# Altium integrated library NXP Microcontrollers ARM7.IntLib: 82 symbols (part 4 of 11)
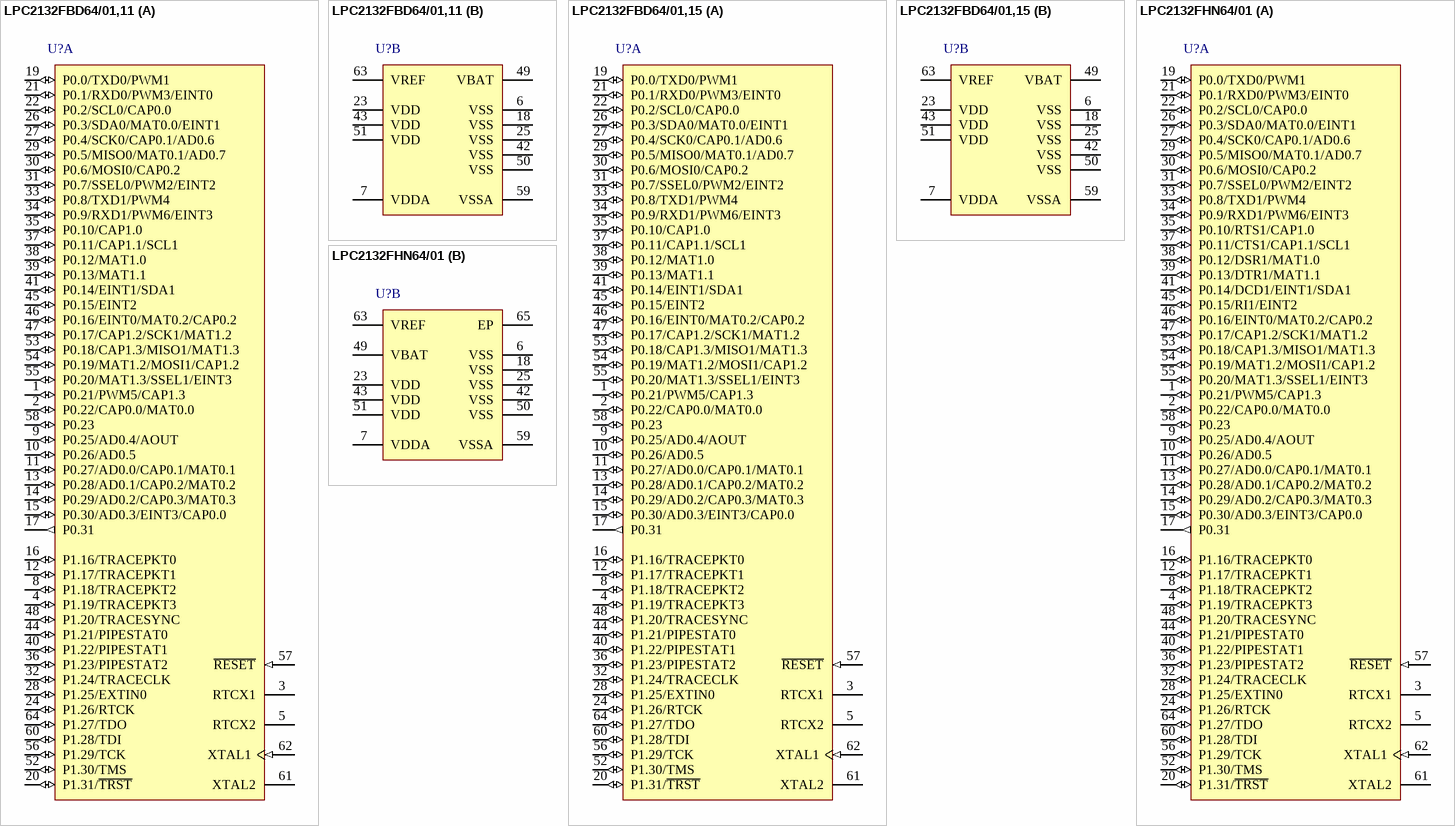
[diagram p38: symbols LPC2132FBD64/01,11 to LPC2132FHN64/01]

## LPC2132FHN64/01
designator U?
16/32-bit ARM7 Microcontroller, 47 I/O, 64 kB Flash, 16 kB SRAM, -40 to 85 degC, 64-Pin HVQFN, Tray; Manufacturer: NXP Semiconductors; PartNumber: LPC2132FHN64/01; # of timers: 2; ADC (bits): 10; ADC Channels: 8; Flash (KB): 64; fmax [max] (MHz): 60; I/O Pins: 47; PLL: TRUE; PWM: 6; RAM (KB): 16; SPI: 1; Timer (bits): 32; DatasheetVersion: Rev. 5.1; PackageVersion: Mar-04; PackageReference: SOT804-2; PackageDescription: 64-Pin Plastic Thermal Enhanced Very Thin Quad Flat Package, Body 9 x 9 mm, Pitch 0.5 mm; Core: ARM7; I2C: 2; Packing: Tray; SSP: 1; UART: 2; Mounting Technology: Surface Mount; Code_JEDEC: MO-220; ComponentLink1Description: Manufacturer URL; ComponentLink1URL: http://www.nxp.com/; ComponentLink2Description: Datasheet; ComponentLink2URL: http://www.nxp.com/documents/data_sheet/LPC2131_32_34_36_38.pdf; ComponentLink3Description: Package Specification; ComponentLink3URL: http://www.nxp.com/documents/outline_drawing/sot804-2_po.pdf
footprint NXP-SOT804-2_N (QFN, 64-Leads, Body 9.05x9.05mm, Pitch 0.5mm, Thermal Pad 7.1x7.1mm, IPC Medium Density)
footprint NXP-SOT804-2_L (QFN, 64-Leads, Body 9.05x9.05mm, Pitch 0.5mm, Thermal Pad 7.1x7.1mm, IPC High Density)
footprint NXP-SOT804-2_M (QFN, 64-Leads, Body 9.05x9.05mm, Pitch 0.5mm, Thermal Pad 7.1x7.1mm, IPC Low Density)
part A pins: 1 P0.21/PWM5/CAP1.3 (io), 2 P0.22/CAP0.0/MAT0.0 (io), 3 RTCX1 "Input to the RTC oscillator circuit.", 4 P1.19/TRACEPKT3 (io), 5 RTCX2 "Output from the RTC oscillator circuit.", 8 P1.18/TRACEPKT2 (io), 9 P0.25/AD0.4/AOUT (io), 10 P0.26/AD0.5 (io), 11 P0.27/AD0.0/CAP0.1/MAT0.1 (io), 12 P1.17/TRACEPKT1 (io), 13 P0.28/AD0.1/CAP0.2/MAT0.2 (io), 14 P0.29/AD0.2/CAP0.3/MAT0.3 (io), 15 P0.30/AD0.3/EINT3/CAP0.0 (io), 16 P1.16/TRACEPKT0 (io), 17 P0.31 (out) "General purpose digital output only pin. Important: This pin MUST NOT be externally pulled LOW when RESET pin is LOW or the JTAG port will be disabled.", 19 P0.0/TXD0/PWM1 (io), 20 P1.31/~{TRST} (io), 21 P0.1/RXD0/PWM3/EINT0 (io), 22 P0.2/SCL0/CAP0.0 (io), 24 P1.26/RTCK (io), 26 P0.3/SDA0/MAT0.0/EINT1 (io), 27 P0.4/SCK0/CAP0.1/AD0.6 (io), 28 P1.25/EXTIN0 (io), 29 P0.5/MISO0/MAT0.1/AD0.7 (io), 30 P0.6/MOSI0/CAP0.2 (io), 31 P0.7/SSEL0/PWM2/EINT2 (io), 32 P1.24/TRACECLK (io), 33 P0.8/TXD1/PWM4 (io), 34 P0.9/RXD1/PWM6/EINT3 (io), 35 P0.10/RTS1/CAP1.0 (io), 36 P1.23/PIPESTAT2 (io), 37 P0.11/CTS1/CAP1.1/SCL1 (io), 38 P0.12/DSR1/MAT1.0 (io), 39 P0.13/DTR1/MAT1.1 (io), 40 P1.22/PIPESTAT1 (io), 41 P0.14/DCD1/EINT1/SDA1 (io), 44 P1.21/PIPESTAT0 (io), 45 P0.15/RI1/EINT2 (io), 46 P0.16/EINT0/MAT0.2/CAP0.2 (io), 47 P0.17/CAP1.2/SCK1/MAT1.2 (io), 48 P1.20/TRACESYNC (io), 52 P1.30/TMS (io), 53 P0.18/CAP1.3/MISO1/MAT1.3 (io), 54 P0.19/MAT1.2/MOSI1/CAP1.2 (io), 55 P0.20/MAT1.3/SSEL1/EINT3 (io), 56 P1.29/TCK (io), 57 ~{RESET} (in) "External reset input: A LOW on this pin resets the device, causing I/O ports and peripherals to take on their default states, and processor execution to begin at address 0. TTL with hysteresis, 5 V tolerant.", 58 P0.23 (io) "General purpose digital input/output pin.", 60 P1.28/TDI (io), 61 XTAL2 "Output from the oscillator amplifier.", 62 XTAL1 (in) "Input to the oscillator circuit and internal clock generator circuits.", 64 P1.27/TDO (io)
part B pins: 6 VSS (power) "Ground: 0 V reference.", 7 VDDA (power) "Analog 3.3 V power supply: This should be nominally the same voltage as VDD but should be isolated to minimize noise and error. This voltage is used to power the on-chip PLL.", 18 VSS (power) "Ground: 0 V reference.", 23 VDD (power) "3.3 V power supply: This is the power supply voltage for the core and I/O ports.", 25 VSS (power) "Ground: 0 V reference.", 42 VSS (power) "Ground: 0 V reference.", 43 VDD (power) "3.3 V power supply: This is the power supply voltage for the core and I/O ports.", 49 VBAT (power) "RTC power supply: 3.3 V on this pin supplies the power to the RTC.", 50 VSS (power) "Ground: 0 V reference.", 51 VDD (power) "3.3 V power supply: This is the power supply voltage for the core and I/O ports.", 59 VSSA (power) "Analog ground: 0 V reference. This should nominally be the same voltage as VSS, but should be isolated to minimize noise and error.", 63 VREF "ADC reference: This should be nominally the same voltage as VDD but should be isolated to minimize noise and error. Level on this pin is used as a reference for A/D and D/A convertor(s).", 65 EP

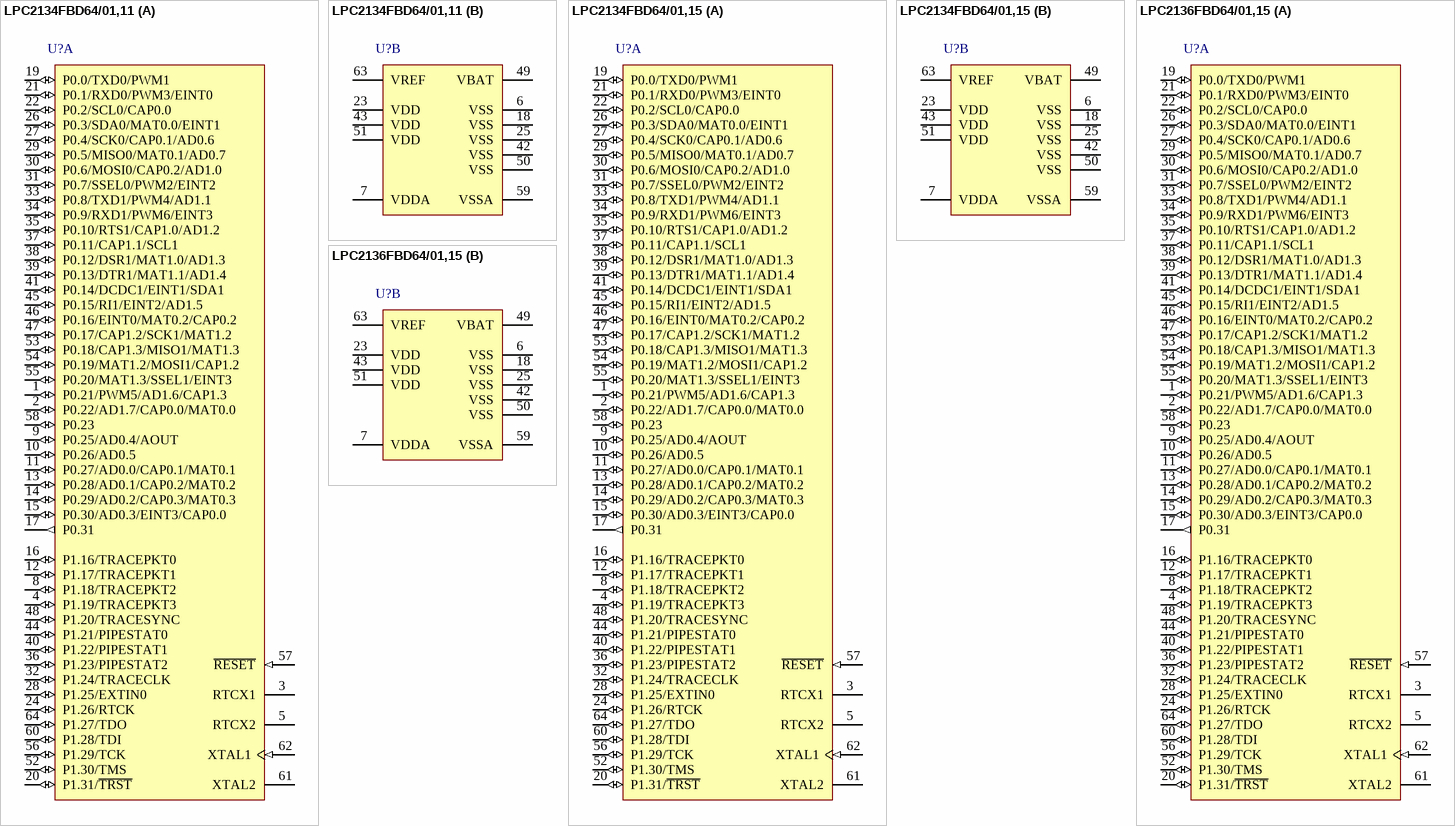
[diagram p9: symbols LPC2134FBD64/01,11 to LPC2136FBD64/01,15]

## LPC2134FBD64/01,11
designator U?
16/32-bit ARM7 Microcontroller, 47 I/O, 128 kB Flash, 16 kB SRAM, -40 to 85 degC, 64-Pin LQFP, Reel; Manufacturer: NXP Semiconductors; PartNumber: LPC2134FBD64/01,11; # of timers: 2; ADC (bits): 10; ADC Channels: 16; Flash (KB): 128; fmax [max] (MHz): 60; I/O Pins: 47; PLL: TRUE; PWM: 6; SPI: 1; Timer (bits): 32; DatasheetVersion: Rev. 5.1; PackageVersion: Feb-03; PackageReference: SOT314-2; PackageDescription: 64-Pin Plastic Low Profile Quad Flat Package, Body 10 x 10 mm, Pitch 0.5 mm; Supplier 1: Digi-Key; Supplier Part Number 1: LPC2134FBD64/01,11-ND; Supplier 2: Mouser; Supplier Part Number 2: 771-LPC2134FBD640111; Core: ARM7; I2C: 2; Packing: Reel; RAM (KB): 16; SSP: 1; UART: 2; Mounting Technology: Surface Mount; Code_JEDEC: MS-026; ComponentLink1Description: Manufacturer URL; ComponentLink1URL: http://www.nxp.com/; ComponentLink2Description: Datasheet; ComponentLink2URL: http://www.nxp.com/documents/data_sheet/LPC2131_32_34_36_38.pdf; ComponentLink3Description: Package Specification; ComponentLink3URL: http://www.nxp.com/documents/outline_drawing/sot314-2_po.pdf
footprint NXP-SOT314-2_V (QFP, 64-Leads, Body 10x10mm, Pitch 0.5mm)
part A pins: 1 P0.21/PWM5/AD1.6/CAP1.3 (io), 2 P0.22/AD1.7/CAP0.0/MAT0.0 (io), 3 RTCX1 "Input to the RTC oscillator circuit.", 4 P1.19/TRACEPKT3 (io), 5 RTCX2 "Output from the RTC oscillator circuit.", 8 P1.18/TRACEPKT2 (io), 9 P0.25/AD0.4/AOUT (io), 10 P0.26/AD0.5 (io), 11 P0.27/AD0.0/CAP0.1/MAT0.1 (io), 12 P1.17/TRACEPKT1 (io), 13 P0.28/AD0.1/CAP0.2/MAT0.2 (io), 14 P0.29/AD0.2/CAP0.3/MAT0.3 (io), 15 P0.30/AD0.3/EINT3/CAP0.0 (io), 16 P1.16/TRACEPKT0 (io), 17 P0.31 (out) "General purpose digital output only pin.", 19 P0.0/TXD0/PWM1 (io), 20 P1.31/~{TRST} (io), 21 P0.1/RXD0/PWM3/EINT0 (io), 22 P0.2/SCL0/CAP0.0 (io), 24 P1.26/RTCK (io), 26 P0.3/SDA0/MAT0.0/EINT1 (io), 27 P0.4/SCK0/CAP0.1/AD0.6 (io), 28 P1.25/EXTIN0 (io), 29 P0.5/MISO0/MAT0.1/AD0.7 (io), 30 P0.6/MOSI0/CAP0.2/AD1.0 (io), 31 P0.7/SSEL0/PWM2/EINT2 (io), 32 P1.24/TRACECLK (io), 33 P0.8/TXD1/PWM4/AD1.1 (io), 34 P0.9/RXD1/PWM6/EINT3 (io), 35 P0.10/RTS1/CAP1.0/AD1.2 (io), 36 P1.23/PIPESTAT2 (io), 37 P0.11/CAP1.1/SCL1 (io), 38 P0.12/DSR1/MAT1.0/AD1.3 (io), 39 P0.13/DTR1/MAT1.1/AD1.4 (io), 40 P1.22/PIPESTAT1 (io), 41 P0.14/DCDC1/EINT1/SDA1 (io), 44 P1.21/PIPESTAT0 (io), 45 P0.15/RI1/EINT2/AD1.5 (io), 46 P0.16/EINT0/MAT0.2/CAP0.2 (io), 47 P0.17/CAP1.2/SCK1/MAT1.2 (io), 48 P1.20/TRACESYNC (io), 52 P1.30/TMS (io), 53 P0.18/CAP1.3/MISO1/MAT1.3 (io), 54 P0.19/MAT1.2/MOSI1/CAP1.2 (io), 55 P0.20/MAT1.3/SSEL1/EINT3 (io), 56 P1.29/TCK (io), 57 ~{RESET} (in) "External reset input: A LOW on this pin resets the device, causing I/O ports and peripherals to take on their default states, and processor execution to begin at address 0. TTL with hysteresis, 5 V tolerant.", 58 P0.23 (io) "General purpose digital input/output pin.", 60 P1.28/TDI (io), 61 XTAL2 "Output from the oscillator amplifier.", 62 XTAL1 (in) "Input to the oscillator circuit and internal clock generator circuits.", 64 P1.27/TDO (io)
part B pins: 6 VSS (power) "Ground: 0 V reference.", 7 VDDA (power) "Analog 3.3 V power supply: This should be nominally the same voltage as VDD but should be isolated to minimize noise and error. This voltage is used to power the on-chip PLL.", 18 VSS (power) "Ground: 0 V reference.", 23 VDD (power) "3.3 V power supply: This is the power supply voltage for the core and I/O ports.", 25 VSS (power) "Ground: 0 V reference.", 42 VSS (power) "Ground: 0 V reference.", 43 VDD (power) "3.3 V power supply: This is the power supply voltage for the core and I/O ports.", 49 VBAT (power) "RTC power supply: 3.3 V on this pin supplies the power to the RTC.", 50 VSS (power) "Ground: 0 V reference.", 51 VDD (power) "3.3 V power supply: This is the power supply voltage for the core and I/O ports.", 59 VSSA (power) "Analog ground: 0 V reference. This should nominally be the same voltage as VSS, but should be isolated to minimize noise and error.", 63 VREF "ADC reference: This should be nominally the same voltage as VDD but should be isolated to minimize noise and error. Level on this pin is used as a reference for A/D and D/A convertor(s)."

## LPC2134FBD64/01,15
designator U?
16/32-bit ARM7 Microcontroller, 47 I/O, 128 kB Flash, 16 kB SRAM, -40 to 85 degC, 64-Pin LQFP, Tray; Manufacturer: NXP Semiconductors; PartNumber: LPC2134FBD64/01,15; # of timers: 2; ADC (bits): 10; ADC Channels: 16; Flash (KB): 128; fmax [max] (MHz): 60; I/O Pins: 47; PLL: TRUE; PWM: 6; SPI: 1; Timer (bits): 32; DatasheetVersion: Rev. 5.1; PackageVersion: Feb-03; PackageReference: SOT314-2; PackageDescription: 64-Pin Plastic Low Profile Quad Flat Package, Body 10 x 10 mm, Pitch 0.5 mm; Supplier 1: Digi-Key; Supplier Part Number 1: 568-4008-ND; Supplier 2: Farnell; Supplier Part Number 2: 2407832; Supplier 3: Newark; Supplier Part Number 3: 70R5623; Supplier 4: Mouser; Supplier Part Number 4: 771-LPC2134FBD64/01S; Core: ARM7; I2C: 2; Packing: Tray; RAM (KB): 16; SSP: 1; UART: 2; Mounting Technology: Surface Mount; Code_JEDEC: MS-026; ComponentLink1Description: Manufacturer URL; ComponentLink1URL: http://www.nxp.com/; ComponentLink2Description: Datasheet; ComponentLink2URL: http://www.nxp.com/documents/data_sheet/LPC2131_32_34_36_38.pdf; ComponentLink3Description: Package Specification; ComponentLink3URL: http://www.nxp.com/documents/outline_drawing/sot314-2_po.pdf
footprint NXP-SOT314-2_V (QFP, 64-Leads, Body 10x10mm, Pitch 0.5mm)
part A pins: 1 P0.21/PWM5/AD1.6/CAP1.3 (io), 2 P0.22/AD1.7/CAP0.0/MAT0.0 (io), 3 RTCX1 "Input to the RTC oscillator circuit.", 4 P1.19/TRACEPKT3 (io), 5 RTCX2 "Output from the RTC oscillator circuit.", 8 P1.18/TRACEPKT2 (io), 9 P0.25/AD0.4/AOUT (io), 10 P0.26/AD0.5 (io), 11 P0.27/AD0.0/CAP0.1/MAT0.1 (io), 12 P1.17/TRACEPKT1 (io), 13 P0.28/AD0.1/CAP0.2/MAT0.2 (io), 14 P0.29/AD0.2/CAP0.3/MAT0.3 (io), 15 P0.30/AD0.3/EINT3/CAP0.0 (io), 16 P1.16/TRACEPKT0 (io), 17 P0.31 (out) "General purpose digital output only pin.", 19 P0.0/TXD0/PWM1 (io), 20 P1.31/~{TRST} (io), 21 P0.1/RXD0/PWM3/EINT0 (io), 22 P0.2/SCL0/CAP0.0 (io), 24 P1.26/RTCK (io), 26 P0.3/SDA0/MAT0.0/EINT1 (io), 27 P0.4/SCK0/CAP0.1/AD0.6 (io), 28 P1.25/EXTIN0 (io), 29 P0.5/MISO0/MAT0.1/AD0.7 (io), 30 P0.6/MOSI0/CAP0.2/AD1.0 (io), 31 P0.7/SSEL0/PWM2/EINT2 (io), 32 P1.24/TRACECLK (io), 33 P0.8/TXD1/PWM4/AD1.1 (io), 34 P0.9/RXD1/PWM6/EINT3 (io), 35 P0.10/RTS1/CAP1.0/AD1.2 (io), 36 P1.23/PIPESTAT2 (io), 37 P0.11/CAP1.1/SCL1 (io), 38 P0.12/DSR1/MAT1.0/AD1.3 (io), 39 P0.13/DTR1/MAT1.1/AD1.4 (io), 40 P1.22/PIPESTAT1 (io), 41 P0.14/DCDC1/EINT1/SDA1 (io), 44 P1.21/PIPESTAT0 (io), 45 P0.15/RI1/EINT2/AD1.5 (io), 46 P0.16/EINT0/MAT0.2/CAP0.2 (io), 47 P0.17/CAP1.2/SCK1/MAT1.2 (io), 48 P1.20/TRACESYNC (io), 52 P1.30/TMS (io), 53 P0.18/CAP1.3/MISO1/MAT1.3 (io), 54 P0.19/MAT1.2/MOSI1/CAP1.2 (io), 55 P0.20/MAT1.3/SSEL1/EINT3 (io), 56 P1.29/TCK (io), 57 ~{RESET} (in) "External reset input: A LOW on this pin resets the device, causing I/O ports and peripherals to take on their default states, and processor execution to begin at address 0. TTL with hysteresis, 5 V tolerant.", 58 P0.23 (io) "General purpose digital input/output pin.", 60 P1.28/TDI (io), 61 XTAL2 "Output from the oscillator amplifier.", 62 XTAL1 (in) "Input to the oscillator circuit and internal clock generator circuits.", 64 P1.27/TDO (io)
part B pins: 6 VSS (power) "Ground: 0 V reference.", 7 VDDA (power) "Analog 3.3 V power supply: This should be nominally the same voltage as VDD but should be isolated to minimize noise and error. This voltage is used to power the on-chip PLL.", 18 VSS (power) "Ground: 0 V reference.", 23 VDD (power) "3.3 V power supply: This is the power supply voltage for the core and I/O ports.", 25 VSS (power) "Ground: 0 V reference.", 42 VSS (power) "Ground: 0 V reference.", 43 VDD (power) "3.3 V power supply: This is the power supply voltage for the core and I/O ports.", 49 VBAT (power) "RTC power supply: 3.3 V on this pin supplies the power to the RTC.", 50 VSS (power) "Ground: 0 V reference.", 51 VDD (power) "3.3 V power supply: This is the power supply voltage for the core and I/O ports.", 59 VSSA (power) "Analog ground: 0 V reference. This should nominally be the same voltage as VSS, but should be isolated to minimize noise and error.", 63 VREF "ADC reference: This should be nominally the same voltage as VDD but should be isolated to minimize noise and error. Level on this pin is used as a reference for A/D and D/A convertor(s)."

## LPC2136FBD64/01,15
designator U?
16/32-bit ARM7 Microcontroller, 47 I/O, 256 kB Flash, 32 kB SRAM, -40 to 85 degC, 64-Pin LQFP, Tray; Manufacturer: NXP Semiconductors; PartNumber: LPC2136FBD64/01,15; # of timers: 2; ADC (bits): 10; ADC Channels: 16; Flash (KB): 256; fmax [max] (MHz): 60; I/O Pins: 47; PLL: TRUE; PWM: 6; RAM (KB): 32; SPI: 1; DatasheetVersion: Rev. 5.1; PackageVersion: Feb-03; PackageReference: SOT314-2; PackageDescription: 64-Pin Plastic Low Profile Quad Flat Package, Body 10 x 10 mm, Pitch 0.5 mm; Supplier 1: Digi-Key; Supplier Part Number 1: 568-4009-ND; Supplier 2: Newark; Supplier Part Number 2: 70R5624; Supplier 3: Mouser; Supplier Part Number 3: 771-LPC2136FBD64/01S; Core: ARM7; I2C: 2; Packing: Tray; SSP: 1; Timer (bits): 32; UART: 2; Mounting Technology: Surface Mount; Code_JEDEC: MS-026; ComponentLink1Description: Manufacturer URL; ComponentLink1URL: http://www.nxp.com/; ComponentLink2Description: Datasheet; ComponentLink2URL: http://www.nxp.com/documents/data_sheet/LPC2131_32_34_36_38.pdf; ComponentLink3Description: Package Specification; ComponentLink3URL: http://www.nxp.com/documents/outline_drawing/sot314-2_po.pdf
footprint NXP-SOT314-2_V (QFP, 64-Leads, Body 10x10mm, Pitch 0.5mm)
part A pins: 1 P0.21/PWM5/AD1.6/CAP1.3 (io), 2 P0.22/AD1.7/CAP0.0/MAT0.0 (io), 3 RTCX1 "Input to the RTC oscillator circuit.", 4 P1.19/TRACEPKT3 (io), 5 RTCX2 "Output from the RTC oscillator circuit.", 8 P1.18/TRACEPKT2 (io), 9 P0.25/AD0.4/AOUT (io), 10 P0.26/AD0.5 (io), 11 P0.27/AD0.0/CAP0.1/MAT0.1 (io), 12 P1.17/TRACEPKT1 (io), 13 P0.28/AD0.1/CAP0.2/MAT0.2 (io), 14 P0.29/AD0.2/CAP0.3/MAT0.3 (io), 15 P0.30/AD0.3/EINT3/CAP0.0 (io), 16 P1.16/TRACEPKT0 (io), 17 P0.31 (out) "General purpose digital output only pin.", 19 P0.0/TXD0/PWM1 (io), 20 P1.31/~{TRST} (io), 21 P0.1/RXD0/PWM3/EINT0 (io), 22 P0.2/SCL0/CAP0.0 (io), 24 P1.26/RTCK (io), 26 P0.3/SDA0/MAT0.0/EINT1 (io), 27 P0.4/SCK0/CAP0.1/AD0.6 (io), 28 P1.25/EXTIN0 (io), 29 P0.5/MISO0/MAT0.1/AD0.7 (io), 30 P0.6/MOSI0/CAP0.2/AD1.0 (io), 31 P0.7/SSEL0/PWM2/EINT2 (io), 32 P1.24/TRACECLK (io), 33 P0.8/TXD1/PWM4/AD1.1 (io), 34 P0.9/RXD1/PWM6/EINT3 (io), 35 P0.10/RTS1/CAP1.0/AD1.2 (io), 36 P1.23/PIPESTAT2 (io), 37 P0.11/CAP1.1/SCL1 (io), 38 P0.12/DSR1/MAT1.0/AD1.3 (io), 39 P0.13/DTR1/MAT1.1/AD1.4 (io), 40 P1.22/PIPESTAT1 (io), 41 P0.14/DCDC1/EINT1/SDA1 (io), 44 P1.21/PIPESTAT0 (io), 45 P0.15/RI1/EINT2/AD1.5 (io), 46 P0.16/EINT0/MAT0.2/CAP0.2 (io), 47 P0.17/CAP1.2/SCK1/MAT1.2 (io), 48 P1.20/TRACESYNC (io), 52 P1.30/TMS (io), 53 P0.18/CAP1.3/MISO1/MAT1.3 (io), 54 P0.19/MAT1.2/MOSI1/CAP1.2 (io), 55 P0.20/MAT1.3/SSEL1/EINT3 (io), 56 P1.29/TCK (io), 57 ~{RESET} (in) "External reset input: A LOW on this pin resets the device, causing I/O ports and peripherals to take on their default states, and processor execution to begin at address 0. TTL with hysteresis, 5 V tolerant.", 58 P0.23 (io) "General purpose digital input/output pin.", 60 P1.28/TDI (io), 61 XTAL2 "Output from the oscillator amplifier.", 62 XTAL1 (in) "Input to the oscillator circuit and internal clock generator circuits.", 64 P1.27/TDO (io)
part B pins: 6 VSS (power) "Ground: 0 V reference.", 7 VDDA (power) "Analog 3.3 V power supply: This should be nominally the same voltage as VDD but should be isolated to minimize noise and error. This voltage is used to power the on-chip PLL.", 18 VSS (power) "Ground: 0 V reference.", 23 VDD (power) "3.3 V power supply: This is the power supply voltage for the core and I/O ports.", 25 VSS (power) "Ground: 0 V reference.", 42 VSS (power) "Ground: 0 V reference.", 43 VDD (power) "3.3 V power supply: This is the power supply voltage for the core and I/O ports.", 49 VBAT (power) "RTC power supply: 3.3 V on this pin supplies the power to the RTC.", 50 VSS (power) "Ground: 0 V reference.", 51 VDD (power) "3.3 V power supply: This is the power supply voltage for the core and I/O ports.", 59 VSSA (power) "Analog ground: 0 V reference. This should nominally be the same voltage as VSS, but should be isolated to minimize noise and error.", 63 VREF "ADC reference: This should be nominally the same voltage as VDD but should be isolated to minimize noise and error. Level on this pin is used as a reference for A/D and D/A convertor(s)."

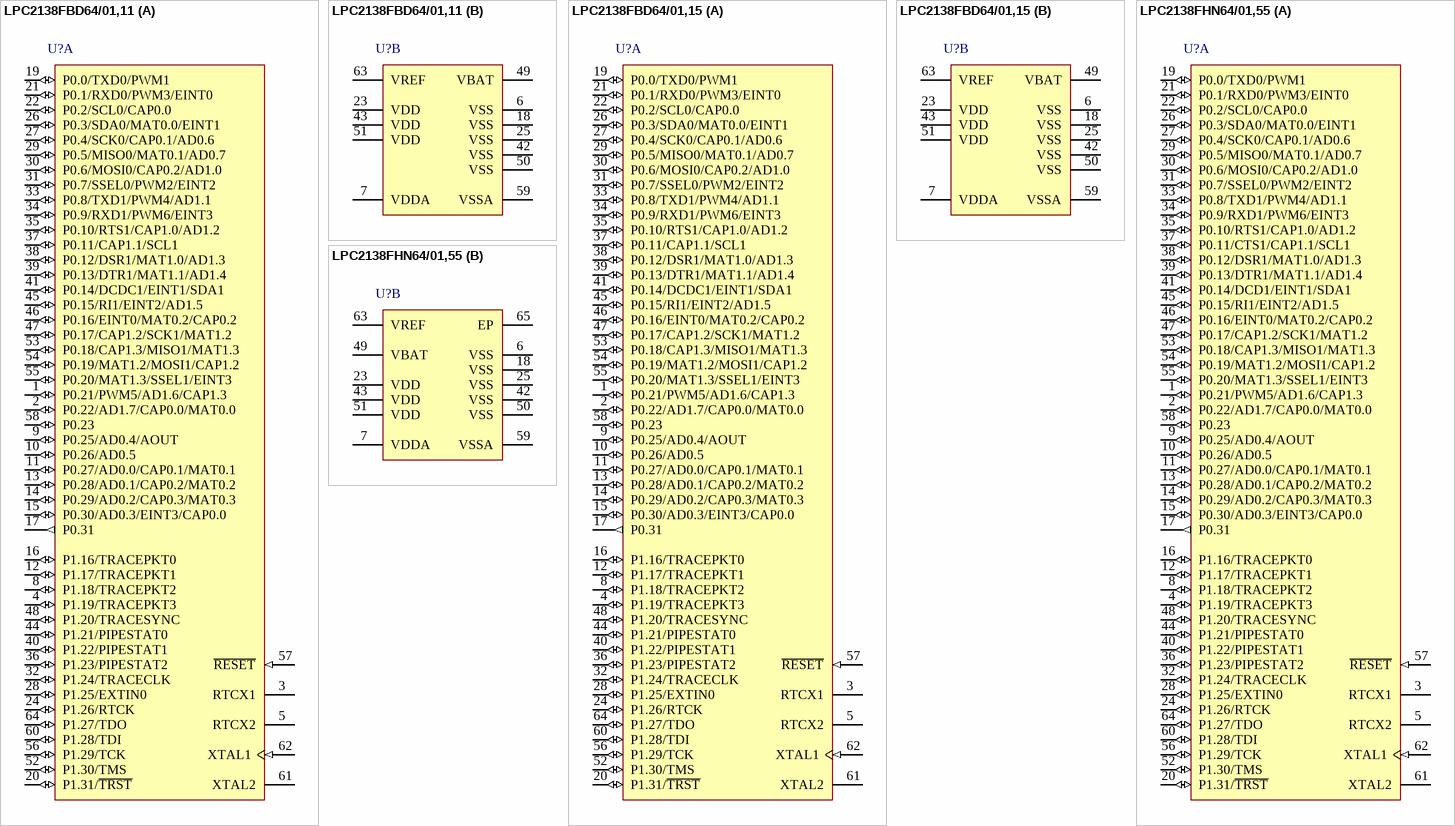
[diagram p10: symbols LPC2138FBD64/01,11 to LPC2138FHN64/01,55]

## LPC2138FBD64/01,11
designator U?
16/32-bit ARM7 Microcontroller, 47 I/O, 512 kB Flash, 32 kB SRAM, -40 to 85 degC, 64-Pin LQFP, Reel; Manufacturer: NXP Semiconductors; PartNumber: LPC2138FBD64/01,11; # of timers: 2; ADC (bits): 10; ADC Channels: 16; Flash (KB): 512; fmax [max] (MHz): 60; I/O Pins: 47; PLL: TRUE; PWM: 6; RAM (KB): 32; SPI: 1; DatasheetVersion: Rev. 5.1; PackageVersion: Feb-03; PackageReference: SOT314-2; PackageDescription: 64-Pin Plastic Low Profile Quad Flat Package, Body 10 x 10 mm, Pitch 0.5 mm; Supplier 1: Digi-Key; Supplier Part Number 1: LPC2138FBD64/01,11-ND; Supplier 2: Newark; Supplier Part Number 2: 99R2725; Supplier 3: Mouser; Supplier Part Number 3: 771-LPC2138FBD640111; Core: ARM7; I2C: 2; Packing: Reel; SSP: 1; Timer (bits): 32; UART: 2; Mounting Technology: Surface Mount; Code_JEDEC: MS-026; ComponentLink1Description: Manufacturer URL; ComponentLink1URL: http://www.nxp.com/; ComponentLink2Description: Datasheet; ComponentLink2URL: http://www.nxp.com/documents/data_sheet/LPC2131_32_34_36_38.pdf; ComponentLink3Description: Package Specification; ComponentLink3URL: http://www.nxp.com/documents/outline_drawing/sot314-2_po.pdf
footprint NXP-SOT314-2_V (QFP, 64-Leads, Body 10x10mm, Pitch 0.5mm)
part A pins: 1 P0.21/PWM5/AD1.6/CAP1.3 (io), 2 P0.22/AD1.7/CAP0.0/MAT0.0 (io), 3 RTCX1 "Input to the RTC oscillator circuit.", 4 P1.19/TRACEPKT3 (io), 5 RTCX2 "Output from the RTC oscillator circuit.", 8 P1.18/TRACEPKT2 (io), 9 P0.25/AD0.4/AOUT (io), 10 P0.26/AD0.5 (io), 11 P0.27/AD0.0/CAP0.1/MAT0.1 (io), 12 P1.17/TRACEPKT1 (io), 13 P0.28/AD0.1/CAP0.2/MAT0.2 (io), 14 P0.29/AD0.2/CAP0.3/MAT0.3 (io), 15 P0.30/AD0.3/EINT3/CAP0.0 (io), 16 P1.16/TRACEPKT0 (io), 17 P0.31 (out) "General purpose digital output only pin.", 19 P0.0/TXD0/PWM1 (io), 20 P1.31/~{TRST} (io), 21 P0.1/RXD0/PWM3/EINT0 (io), 22 P0.2/SCL0/CAP0.0 (io), 24 P1.26/RTCK (io), 26 P0.3/SDA0/MAT0.0/EINT1 (io), 27 P0.4/SCK0/CAP0.1/AD0.6 (io), 28 P1.25/EXTIN0 (io), 29 P0.5/MISO0/MAT0.1/AD0.7 (io), 30 P0.6/MOSI0/CAP0.2/AD1.0 (io), 31 P0.7/SSEL0/PWM2/EINT2 (io), 32 P1.24/TRACECLK (io), 33 P0.8/TXD1/PWM4/AD1.1 (io), 34 P0.9/RXD1/PWM6/EINT3 (io), 35 P0.10/RTS1/CAP1.0/AD1.2 (io), 36 P1.23/PIPESTAT2 (io), 37 P0.11/CAP1.1/SCL1 (io), 38 P0.12/DSR1/MAT1.0/AD1.3 (io), 39 P0.13/DTR1/MAT1.1/AD1.4 (io), 40 P1.22/PIPESTAT1 (io), 41 P0.14/DCDC1/EINT1/SDA1 (io), 44 P1.21/PIPESTAT0 (io), 45 P0.15/RI1/EINT2/AD1.5 (io), 46 P0.16/EINT0/MAT0.2/CAP0.2 (io), 47 P0.17/CAP1.2/SCK1/MAT1.2 (io), 48 P1.20/TRACESYNC (io), 52 P1.30/TMS (io), 53 P0.18/CAP1.3/MISO1/MAT1.3 (io), 54 P0.19/MAT1.2/MOSI1/CAP1.2 (io), 55 P0.20/MAT1.3/SSEL1/EINT3 (io), 56 P1.29/TCK (io), 57 ~{RESET} (in) "External reset input: A LOW on this pin resets the device, causing I/O ports and peripherals to take on their default states, and processor execution to begin at address 0. TTL with hysteresis, 5 V tolerant.", 58 P0.23 (io) "General purpose digital input/output pin.", 60 P1.28/TDI (io), 61 XTAL2 "Output from the oscillator amplifier.", 62 XTAL1 (in) "Input to the oscillator circuit and internal clock generator circuits.", 64 P1.27/TDO (io)
part B pins: 6 VSS (power) "Ground: 0 V reference.", 7 VDDA (power) "Analog 3.3 V power supply: This should be nominally the same voltage as VDD but should be isolated to minimize noise and error. This voltage is used to power the on-chip PLL.", 18 VSS (power) "Ground: 0 V reference.", 23 VDD (power) "3.3 V power supply: This is the power supply voltage for the core and I/O ports.", 25 VSS (power) "Ground: 0 V reference.", 42 VSS (power) "Ground: 0 V reference.", 43 VDD (power) "3.3 V power supply: This is the power supply voltage for the core and I/O ports.", 49 VBAT (power) "RTC power supply: 3.3 V on this pin supplies the power to the RTC.", 50 VSS (power) "Ground: 0 V reference.", 51 VDD (power) "3.3 V power supply: This is the power supply voltage for the core and I/O ports.", 59 VSSA (power) "Analog ground: 0 V reference. This should nominally be the same voltage as VSS, but should be isolated to minimize noise and error.", 63 VREF "ADC reference: This should be nominally the same voltage as VDD but should be isolated to minimize noise and error. Level on this pin is used as a reference for A/D and D/A convertor(s)."

## LPC2138FBD64/01,15
designator U?
16/32-bit ARM7 Microcontroller, 47 I/O, 512 kB Flash, 32 kB SRAM, -40 to 85 degC, 64-Pin LQFP, Tray; Manufacturer: NXP Semiconductors; PartNumber: LPC2138FBD64/01,15; # of timers: 2; ADC (bits): 10; ADC Channels: 16; Flash (KB): 512; fmax [max] (MHz): 60; I/O Pins: 47; PLL: TRUE; PWM: 6; RAM (KB): 32; SPI: 1; DatasheetVersion: Rev. 5.1; PackageVersion: Feb-03; PackageReference: SOT314-2; PackageDescription: 64-Pin Plastic Low Profile Quad Flat Package, Body 10 x 10 mm, Pitch 0.5 mm; Supplier 1: Digi-Key; Supplier Part Number 1: 568-4010-ND; Supplier 2: Farnell; Supplier Part Number 2: 1831179; Supplier 3: Newark; Supplier Part Number 3: 70R5625; Supplier 4: Mouser; Supplier Part Number 4: 771-LPC2138FBD64/01S; Core: ARM7; I2C: 2; Packing: Tray; SSP: 1; Timer (bits): 32; UART: 2; Mounting Technology: Surface Mount; Code_JEDEC: MS-026; ComponentLink1Description: Manufacturer URL; ComponentLink1URL: http://www.nxp.com/; ComponentLink2Description: Datasheet; ComponentLink2URL: http://www.nxp.com/documents/data_sheet/LPC2131_32_34_36_38.pdf; ComponentLink3Description: Package Specification; ComponentLink3URL: http://www.nxp.com/documents/outline_drawing/sot314-2_po.pdf
footprint NXP-SOT314-2_V (QFP, 64-Leads, Body 10x10mm, Pitch 0.5mm)
part A pins: 1 P0.21/PWM5/AD1.6/CAP1.3 (io), 2 P0.22/AD1.7/CAP0.0/MAT0.0 (io), 3 RTCX1 "Input to the RTC oscillator circuit.", 4 P1.19/TRACEPKT3 (io), 5 RTCX2 "Output from the RTC oscillator circuit.", 8 P1.18/TRACEPKT2 (io), 9 P0.25/AD0.4/AOUT (io), 10 P0.26/AD0.5 (io), 11 P0.27/AD0.0/CAP0.1/MAT0.1 (io), 12 P1.17/TRACEPKT1 (io), 13 P0.28/AD0.1/CAP0.2/MAT0.2 (io), 14 P0.29/AD0.2/CAP0.3/MAT0.3 (io), 15 P0.30/AD0.3/EINT3/CAP0.0 (io), 16 P1.16/TRACEPKT0 (io), 17 P0.31 (out) "General purpose digital output only pin.", 19 P0.0/TXD0/PWM1 (io), 20 P1.31/~{TRST} (io), 21 P0.1/RXD0/PWM3/EINT0 (io), 22 P0.2/SCL0/CAP0.0 (io), 24 P1.26/RTCK (io), 26 P0.3/SDA0/MAT0.0/EINT1 (io), 27 P0.4/SCK0/CAP0.1/AD0.6 (io), 28 P1.25/EXTIN0 (io), 29 P0.5/MISO0/MAT0.1/AD0.7 (io), 30 P0.6/MOSI0/CAP0.2/AD1.0 (io), 31 P0.7/SSEL0/PWM2/EINT2 (io), 32 P1.24/TRACECLK (io), 33 P0.8/TXD1/PWM4/AD1.1 (io), 34 P0.9/RXD1/PWM6/EINT3 (io), 35 P0.10/RTS1/CAP1.0/AD1.2 (io), 36 P1.23/PIPESTAT2 (io), 37 P0.11/CAP1.1/SCL1 (io), 38 P0.12/DSR1/MAT1.0/AD1.3 (io), 39 P0.13/DTR1/MAT1.1/AD1.4 (io), 40 P1.22/PIPESTAT1 (io), 41 P0.14/DCDC1/EINT1/SDA1 (io), 44 P1.21/PIPESTAT0 (io), 45 P0.15/RI1/EINT2/AD1.5 (io), 46 P0.16/EINT0/MAT0.2/CAP0.2 (io), 47 P0.17/CAP1.2/SCK1/MAT1.2 (io), 48 P1.20/TRACESYNC (io), 52 P1.30/TMS (io), 53 P0.18/CAP1.3/MISO1/MAT1.3 (io), 54 P0.19/MAT1.2/MOSI1/CAP1.2 (io), 55 P0.20/MAT1.3/SSEL1/EINT3 (io), 56 P1.29/TCK (io), 57 ~{RESET} (in) "External reset input: A LOW on this pin resets the device, causing I/O ports and peripherals to take on their default states, and processor execution to begin at address 0. TTL with hysteresis, 5 V tolerant.", 58 P0.23 (io) "General purpose digital input/output pin.", 60 P1.28/TDI (io), 61 XTAL2 "Output from the oscillator amplifier.", 62 XTAL1 (in) "Input to the oscillator circuit and internal clock generator circuits.", 64 P1.27/TDO (io)
part B pins: 6 VSS (power) "Ground: 0 V reference.", 7 VDDA (power) "Analog 3.3 V power supply: This should be nominally the same voltage as VDD but should be isolated to minimize noise and error. This voltage is used to power the on-chip PLL.", 18 VSS (power) "Ground: 0 V reference.", 23 VDD (power) "3.3 V power supply: This is the power supply voltage for the core and I/O ports.", 25 VSS (power) "Ground: 0 V reference.", 42 VSS (power) "Ground: 0 V reference.", 43 VDD (power) "3.3 V power supply: This is the power supply voltage for the core and I/O ports.", 49 VBAT (power) "RTC power supply: 3.3 V on this pin supplies the power to the RTC.", 50 VSS (power) "Ground: 0 V reference.", 51 VDD (power) "3.3 V power supply: This is the power supply voltage for the core and I/O ports.", 59 VSSA (power) "Analog ground: 0 V reference. This should nominally be the same voltage as VSS, but should be isolated to minimize noise and error.", 63 VREF "ADC reference: This should be nominally the same voltage as VDD but should be isolated to minimize noise and error. Level on this pin is used as a reference for A/D and D/A convertor(s)."

## LPC2138FHN64/01,55
designator U?
16/32-bit ARM7 Microcontroller, 47 I/O, 512 kB Flash, 32 kB SRAM, -40 to 85 degC, 64-Pin HVQFN, Tray; Manufacturer: NXP Semiconductors; PartNumber: LPC2138FHN64/01,55; # of timers: 2; ADC (bits): 10; ADC Channels: 16; Flash (KB): 512; fmax [max] (MHz): 60; I/O Pins: 47; PLL: TRUE; PWM: 6; RAM (KB): 32; SPI: 1; DatasheetVersion: Rev. 5.1; PackageVersion: Mar-04; PackageReference: SOT804-2; PackageDescription: 64-Pin Plastic Thermal Enhanced Very Thin Quad Flat Package, Body 9 x 9 mm, Pitch 0.5 mm; Supplier 1: Digi-Key; Supplier Part Number 1: 568-4011-ND; Supplier 2: Newark; Supplier Part Number 2: 70R5626; Supplier 3: Mouser; Supplier Part Number 3: 771-LPC2138FHN64/01; Core: ARM7; I2C: 2; Packing: Tray; SSP: 1; Timer (bits): 32; UART: 2; Mounting Technology: Surface Mount; Code_JEDEC: MO-220; ComponentLink1Description: Manufacturer URL; ComponentLink1URL: http://www.nxp.com/; ComponentLink2Description: Datasheet; ComponentLink2URL: http://www.nxp.com/documents/data_sheet/LPC2131_32_34_36_38.pdf; ComponentLink3Description: Package Specification; ComponentLink3URL: http://www.nxp.com/documents/outline_drawing/sot804-2_po.pdf
footprint NXP-SOT804-2_N (QFN, 64-Leads, Body 9.05x9.05mm, Pitch 0.5mm, Thermal Pad 7.1x7.1mm, IPC Medium Density)
footprint NXP-SOT804-2_L (QFN, 64-Leads, Body 9.05x9.05mm, Pitch 0.5mm, Thermal Pad 7.1x7.1mm, IPC High Density)
footprint NXP-SOT804-2_M (QFN, 64-Leads, Body 9.05x9.05mm, Pitch 0.5mm, Thermal Pad 7.1x7.1mm, IPC Low Density)
part A pins: 1 P0.21/PWM5/AD1.6/CAP1.3 (io), 2 P0.22/AD1.7/CAP0.0/MAT0.0 (io), 3 RTCX1 "Input to the RTC oscillator circuit.", 4 P1.19/TRACEPKT3 (io), 5 RTCX2 "Output from the RTC oscillator circuit.", 8 P1.18/TRACEPKT2 (io), 9 P0.25/AD0.4/AOUT (io), 10 P0.26/AD0.5 (io), 11 P0.27/AD0.0/CAP0.1/MAT0.1 (io), 12 P1.17/TRACEPKT1 (io), 13 P0.28/AD0.1/CAP0.2/MAT0.2 (io), 14 P0.29/AD0.2/CAP0.3/MAT0.3 (io), 15 P0.30/AD0.3/EINT3/CAP0.0 (io), 16 P1.16/TRACEPKT0 (io), 17 P0.31 (out) "General purpose digital output only pin. Important: This pin MUST NOT be externally pulled LOW when R\E\S\E\T\ pin is LOW or the JTAG port will be disabled.", 19 P0.0/TXD0/PWM1 (io), 20 P1.31/~{TRST} (io), 21 P0.1/RXD0/PWM3/EINT0 (io), 22 P0.2/SCL0/CAP0.0 (io), 24 P1.26/RTCK (io), 26 P0.3/SDA0/MAT0.0/EINT1 (io), 27 P0.4/SCK0/CAP0.1/AD0.6 (io), 28 P1.25/EXTIN0 (io), 29 P0.5/MISO0/MAT0.1/AD0.7 (io), 30 P0.6/MOSI0/CAP0.2/AD1.0 (io), 31 P0.7/SSEL0/PWM2/EINT2 (io), 32 P1.24/TRACECLK (io), 33 P0.8/TXD1/PWM4/AD1.1 (io), 34 P0.9/RXD1/PWM6/EINT3 (io), 35 P0.10/RTS1/CAP1.0/AD1.2 (io), 36 P1.23/PIPESTAT2 (io), 37 P0.11/CTS1/CAP1.1/SCL1 (io), 38 P0.12/DSR1/MAT1.0/AD1.3 (io), 39 P0.13/DTR1/MAT1.1/AD1.4 (io), 40 P1.22/PIPESTAT1 (io), 41 P0.14/DCD1/EINT1/SDA1 (io), 44 P1.21/PIPESTAT0 (io), 45 P0.15/RI1/EINT2/AD1.5 (io), 46 P0.16/EINT0/MAT0.2/CAP0.2 (io), 47 P0.17/CAP1.2/SCK1/MAT1.2 (io), 48 P1.20/TRACESYNC (io), 52 P1.30/TMS (io), 53 P0.18/CAP1.3/MISO1/MAT1.3 (io), 54 P0.19/MAT1.2/MOSI1/CAP1.2 (io), 55 P0.20/MAT1.3/SSEL1/EINT3 (io), 56 P1.29/TCK (io), 57 ~{RESET} (in) "External reset input: A LOW on this pin resets the device, causing I/O ports and peripherals to take on their default states, and processor execution to begin at address 0. TTL with hysteresis, 5 V tolerant.", 58 P0.23 (io) "General purpose digital input/output pin.", 60 P1.28/TDI (io), 61 XTAL2 "Output from the oscillator amplifier.", 62 XTAL1 (in) "Input to the oscillator circuit and internal clock generator circuits.", 64 P1.27/TDO (io)
part B pins: 6 VSS (power) "Ground: 0 V reference.", 7 VDDA (power) "Analog 3.3 V power supply: This should be nominally the same voltage as VDD but should be isolated to minimize noise and error. This voltage is used to power the on-chip PLL.", 18 VSS (power) "Ground: 0 V reference.", 23 VDD (power) "3.3 V power supply: This is the power supply voltage for the core and I/O ports.", 25 VSS (power) "Ground: 0 V reference.", 42 VSS (power) "Ground: 0 V reference.", 43 VDD (power) "3.3 V power supply: This is the power supply voltage for the core and I/O ports.", 49 VBAT (power) "RTC power supply: 3.3 V on this pin supplies the power to the RTC.", 50 VSS (power) "Ground: 0 V reference.", 51 VDD (power) "3.3 V power supply: This is the power supply voltage for the core and I/O ports.", 59 VSSA (power) "Analog ground: 0 V reference. This should nominally be the same voltage as VSS, but should be isolated to minimize noise and error.", 63 VREF "ADC reference: This should be nominally the same voltage as VDD but should be isolated to minimize noise and error. Level on this pin is used as a reference for A/D and D/A convertor(s).", 65 EP

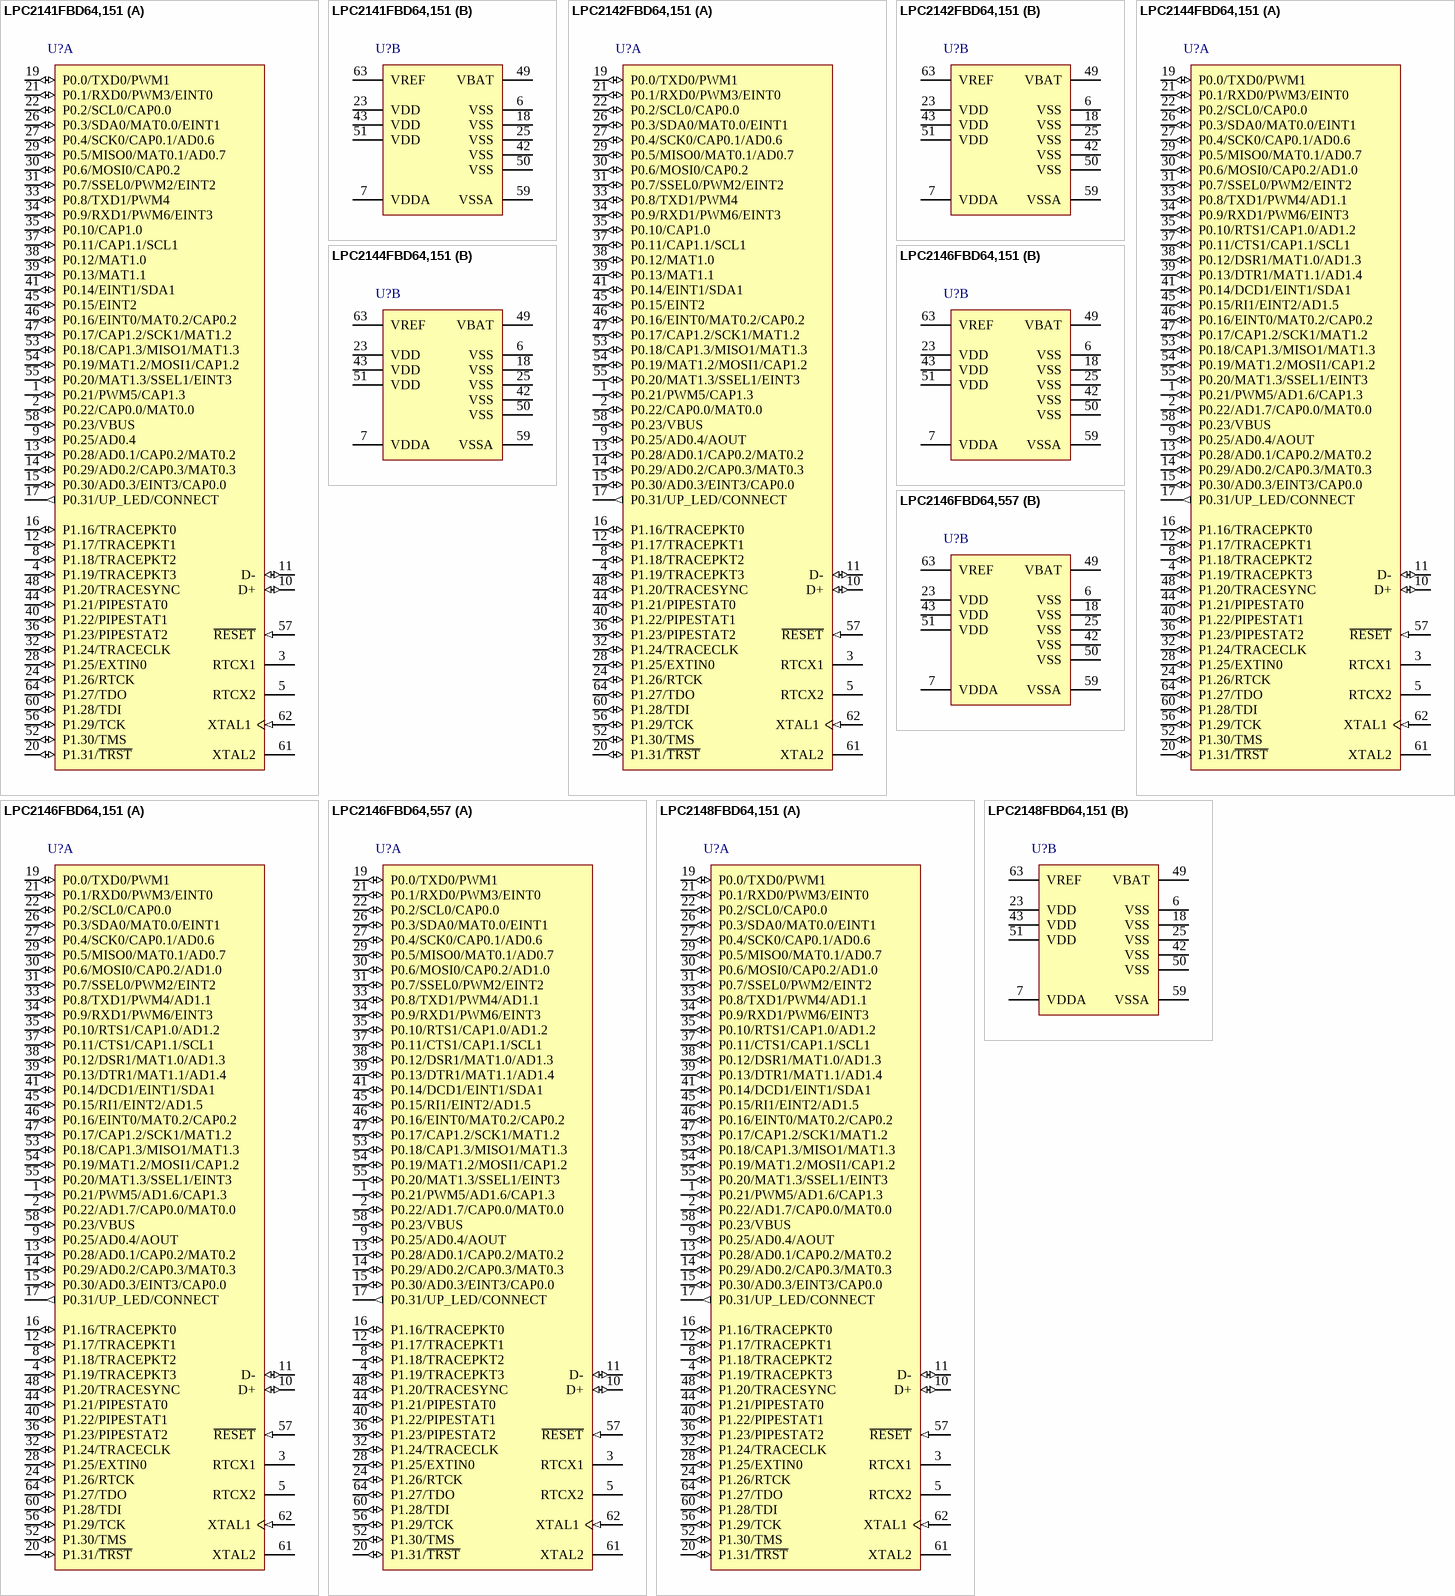
[diagram p11: symbols LPC2141FBD64,151 to LPC2148FBD64,151]

## LPC2141FBD64,151
designator U?
16/32-bit ARM7 Microcontroller, 45 I/O, 32 kB Flash, 8 kB SRAM, -40 to 85 degC, 64-Pin LQFP, Tray; Manufacturer: NXP Semiconductors; PartNumber: LPC2141FBD64,151; # of timers: 2; ADC (bits): 10; ADC Channels: 6; Flash (KB): 32; fmax [max] (MHz): 60; I/O Pins: 45; PLL: TRUE; RAM (KB): 8; SPI: 1; DatasheetVersion: Rev. 5; PackageVersion: Feb-03; PackageReference: SOT314-2; PackageDescription: 64-Pin Plastic Low Profile Quad Flat Package, Body 10 x 10 mm, Pitch 0.5 mm; Supplier 1: Digi-Key; Supplier Part Number 1: 568-1761-ND; Supplier 2: Newark; Supplier Part Number 2: 70R5627; Supplier 3: Mouser; Supplier Part Number 3: 771-LPC2141FBD64-S; Core: ARM7; I2C: 2; Packing: Tray; PWM: 6; SSP: 1; Timer (bits): 32; UART: 2; USB: 1; Mounting Technology: Surface Mount; Code_JEDEC: MS-026; ComponentLink1Description: Manufacturer URL; ComponentLink1URL: http://www.nxp.com/; ComponentLink2Description: Datasheet; ComponentLink2URL: http://www.nxp.com/documents/data_sheet/LPC2141_42_44_46_48.pdf; ComponentLink3Description: Package Specification; ComponentLink3URL: http://www.nxp.com/documents/outline_drawing/sot314-2_po.pdf
footprint NXP-SOT314-2_V (QFP, 64-Leads, Body 10x10mm, Pitch 0.5mm)
part A pins: 1 P0.21/PWM5/CAP1.3 (io), 2 P0.22/CAP0.0/MAT0.0 (io), 3 RTCX1 "Input to the RTC oscillator circuit.", 4 P1.19/TRACEPKT3 (io), 5 RTCX2 "Output from the RTC oscillator circuit.", 8 P1.18/TRACEPKT2 (io), 9 P0.25/AD0.4 (io), 10 D+ (io) "USB bidirectional D+ line.", 11 D- (io) "USB bidirectional D- line.", 12 P1.17/TRACEPKT1 (io), 13 P0.28/AD0.1/CAP0.2/MAT0.2 (io), 14 P0.29/AD0.2/CAP0.3/MAT0.3 (io), 15 P0.30/AD0.3/EINT3/CAP0.0 (io), 16 P1.16/TRACEPKT0 (io), 17 P0.31/UP_LED/CONNECT (out), 19 P0.0/TXD0/PWM1 (io), 20 P1.31/~{TRST} (io), 21 P0.1/RXD0/PWM3/EINT0 (io), 22 P0.2/SCL0/CAP0.0 (io), 24 P1.26/RTCK (io), 26 P0.3/SDA0/MAT0.0/EINT1 (io), 27 P0.4/SCK0/CAP0.1/AD0.6 (io), 28 P1.25/EXTIN0 (io), 29 P0.5/MISO0/MAT0.1/AD0.7 (io), 30 P0.6/MOSI0/CAP0.2 (io), 31 P0.7/SSEL0/PWM2/EINT2 (io), 32 P1.24/TRACECLK (io), 33 P0.8/TXD1/PWM4 (io), 34 P0.9/RXD1/PWM6/EINT3 (io), 35 P0.10/CAP1.0 (io), 36 P1.23/PIPESTAT2 (io), 37 P0.11/CAP1.1/SCL1 (io), 38 P0.12/MAT1.0 (io), 39 P0.13/MAT1.1 (io), 40 P1.22/PIPESTAT1 (io), 41 P0.14/EINT1/SDA1 (io), 44 P1.21/PIPESTAT0 (io), 45 P0.15/EINT2 (io), 46 P0.16/EINT0/MAT0.2/CAP0.2 (io), 47 P0.17/CAP1.2/SCK1/MAT1.2 (io), 48 P1.20/TRACESYNC (io), 52 P1.30/TMS (io), 53 P0.18/CAP1.3/MISO1/MAT1.3 (io), 54 P0.19/MAT1.2/MOSI1/CAP1.2 (io), 55 P0.20/MAT1.3/SSEL1/EINT3 (io), 56 P1.29/TCK (io), 57 ~{RESET} (in) "External reset input: A LOW on this pin resets the device, causing I/O ports and peripherals to take on their default states, and processor execution to begin at address 0. TTL with hysteresis, 5 V tolerant.", 58 P0.23/VBUS (io), 60 P1.28/TDI (io), 61 XTAL2 "Output from the oscillator amplifier.", 62 XTAL1 (in) "Input to the oscillator circuit and internal clock generator circuits.", 64 P1.27/TDO (io)
part B pins: 6 VSS (power) "Ground: 0 V reference.", 7 VDDA (power) "Analog 3.3 V power supply: This should be nominally the same voltage as VDD but should be isolated to minimize noise and error. This voltage is only used to power the on-chip ADC(s) and DAC.", 18 VSS (power) "Ground: 0 V reference.", 23 VDD (power) "3.3 V power supply: This is the power supply voltage for the core and I/O ports.", 25 VSS (power) "Ground: 0 V reference.", 42 VSS (power) "Ground: 0 V reference.", 43 VDD (power) "3.3 V power supply: This is the power supply voltage for the core and I/O ports.", 49 VBAT (power) "RTC power supply voltage: 3.3 V on this pin supplies the power to the RTC.", 50 VSS (power) "Ground: 0 V reference.", 51 VDD (power) "3.3 V power supply: This is the power supply voltage for the core and I/O ports.", 59 VSSA (power) "Analog ground: 0 V reference. This should nominally be the same voltage as VSS, but should be isolated to minimize noise and error.", 63 VREF "ADC reference voltage: This should be nominally less than or equal to the VDD voltage but should be isolated to minimize noise and error. Level on this pin is used as a reference for ADC(s) and DAC."

## LPC2142FBD64,151
designator U?
16/32-bit ARM7 Microcontroller, 45 I/O, 64 kB Flash, 16 kB SRAM, -40 to 85 degC, 64-Pin LQFP, Tray; Manufacturer: NXP Semiconductors; PartNumber: LPC2142FBD64,151; # of timers: 2; ADC (bits): 10; ADC Channels: 6; Flash (KB): 64; fmax [max] (MHz): 60; I/O Pins: 45; PLL: TRUE; RAM (KB): 16; SPI: 1; Timer (bits): 32; DatasheetVersion: Rev. 5; PackageVersion: Feb-03; PackageReference: SOT314-2; PackageDescription: 64-Pin Plastic Low Profile Quad Flat Package, Body 10 x 10 mm, Pitch 0.5 mm; Supplier 1: Digi-Key; Supplier Part Number 1: 568-1762-ND; Supplier 2: Mouser; Supplier Part Number 2: 771-LPC2142FBD64-S; Core: ARM7; I2C: 2; Packing: Tray; PWM: 6; SSP: 1; UART: 2; USB: 1; Mounting Technology: Surface Mount; Code_JEDEC: MS-026; ComponentLink1Description: Manufacturer URL; ComponentLink1URL: http://www.nxp.com/; ComponentLink2Description: Datasheet; ComponentLink2URL: http://www.nxp.com/documents/data_sheet/LPC2141_42_44_46_48.pdf; ComponentLink3Description: Package Specification; ComponentLink3URL: http://www.nxp.com/documents/outline_drawing/sot314-2_po.pdf
footprint NXP-SOT314-2_V (QFP, 64-Leads, Body 10x10mm, Pitch 0.5mm)
part A pins: 1 P0.21/PWM5/CAP1.3 (io), 2 P0.22/CAP0.0/MAT0.0 (io), 3 RTCX1 "Input to the RTC oscillator circuit.", 4 P1.19/TRACEPKT3 (io), 5 RTCX2 "Output from the RTC oscillator circuit.", 8 P1.18/TRACEPKT2 (io), 9 P0.25/AD0.4/AOUT (io), 10 D+ (io) "USB bidirectional D+ line.", 11 D- (io) "USB bidirectional D- line.", 12 P1.17/TRACEPKT1 (io), 13 P0.28/AD0.1/CAP0.2/MAT0.2 (io), 14 P0.29/AD0.2/CAP0.3/MAT0.3 (io), 15 P0.30/AD0.3/EINT3/CAP0.0 (io), 16 P1.16/TRACEPKT0 (io), 17 P0.31/UP_LED/CONNECT (out), 19 P0.0/TXD0/PWM1 (io), 20 P1.31/~{TRST} (io), 21 P0.1/RXD0/PWM3/EINT0 (io), 22 P0.2/SCL0/CAP0.0 (io), 24 P1.26/RTCK (io), 26 P0.3/SDA0/MAT0.0/EINT1 (io), 27 P0.4/SCK0/CAP0.1/AD0.6 (io), 28 P1.25/EXTIN0 (io), 29 P0.5/MISO0/MAT0.1/AD0.7 (io), 30 P0.6/MOSI0/CAP0.2 (io), 31 P0.7/SSEL0/PWM2/EINT2 (io), 32 P1.24/TRACECLK (io), 33 P0.8/TXD1/PWM4 (io), 34 P0.9/RXD1/PWM6/EINT3 (io), 35 P0.10/CAP1.0 (io), 36 P1.23/PIPESTAT2 (io), 37 P0.11/CAP1.1/SCL1 (io), 38 P0.12/MAT1.0 (io), 39 P0.13/MAT1.1 (io), 40 P1.22/PIPESTAT1 (io), 41 P0.14/EINT1/SDA1 (io), 44 P1.21/PIPESTAT0 (io), 45 P0.15/EINT2 (io), 46 P0.16/EINT0/MAT0.2/CAP0.2 (io), 47 P0.17/CAP1.2/SCK1/MAT1.2 (io), 48 P1.20/TRACESYNC (io), 52 P1.30/TMS (io), 53 P0.18/CAP1.3/MISO1/MAT1.3 (io), 54 P0.19/MAT1.2/MOSI1/CAP1.2 (io), 55 P0.20/MAT1.3/SSEL1/EINT3 (io), 56 P1.29/TCK (io), 57 ~{RESET} (in) "External reset input: A LOW on this pin resets the device, causing I/O ports and peripherals to take on their default states, and processor execution to begin at address 0. TTL with hysteresis, 5 V tolerant.", 58 P0.23/VBUS (io), 60 P1.28/TDI (io), 61 XTAL2 "Output from the oscillator amplifier.", 62 XTAL1 (in) "Input to the oscillator circuit and internal clock generator circuits.", 64 P1.27/TDO (io)
part B pins: 6 VSS (power) "Ground: 0 V reference.", 7 VDDA (power) "Analog 3.3 V power supply: This should be nominally the same voltage as VDD but should be isolated to minimize noise and error. This voltage is only used to power the on-chip ADC(s) and DAC.", 18 VSS (power) "Ground: 0 V reference.", 23 VDD (power) "3.3 V power supply: This is the power supply voltage for the core and I/O ports.", 25 VSS (power) "Ground: 0 V reference.", 42 VSS (power) "Ground: 0 V reference.", 43 VDD (power) "3.3 V power supply: This is the power supply voltage for the core and I/O ports.", 49 VBAT (power) "RTC power supply voltage: 3.3 V on this pin supplies the power to the RTC.", 50 VSS (power) "Ground: 0 V reference.", 51 VDD (power) "3.3 V power supply: This is the power supply voltage for the core and I/O ports.", 59 VSSA (power) "Analog ground: 0 V reference. This should nominally be the same voltage as VSS, but should be isolated to minimize noise and error.", 63 VREF "ADC reference voltage: This should be nominally less than or equal to the VDD voltage but should be isolated to minimize noise and error. Level on this pin is used as a reference for ADC(s) and DAC."

## LPC2144FBD64,151
designator U?
16/32-bit ARM7 Microcontroller, 45 I/O, 128 kB Flash, 16 kB SRAM, -40 to 85 degC, 64-Pin LQFP, Tray; Manufacturer: NXP Semiconductors; PartNumber: LPC2144FBD64,151; # of timers: 2; ADC (bits): 10; ADC Channels: 14; Flash (KB): 128; fmax [max] (MHz): 60; I/O Pins: 45; PLL: TRUE; PWM: 6; RAM (KB): 16; SPI: 1; Timer (bits): 32; DatasheetVersion: Rev. 5; PackageVersion: Feb-03; PackageReference: SOT314-2; PackageDescription: 64-Pin Plastic Low Profile Quad Flat Package, Body 10 x 10 mm, Pitch 0.5 mm; Supplier 1: Digi-Key; Supplier Part Number 1: 568-1763-ND; Supplier 2: Newark; Supplier Part Number 2: 70R5629; Supplier 3: Mouser; Supplier Part Number 3: 771-LPC2144FBD64-S; Core: ARM7; I2C: 2; Packing: Tray; SSP: 1; UART: 2; USB: 1; Mounting Technology: Surface Mount; Code_JEDEC: MS-026; ComponentLink1Description: Manufacturer URL; ComponentLink1URL: http://www.nxp.com/; ComponentLink2Description: Datasheet; ComponentLink2URL: http://www.nxp.com/documents/data_sheet/LPC2141_42_44_46_48.pdf; ComponentLink3Description: Package Specification; ComponentLink3URL: http://www.nxp.com/documents/outline_drawing/sot314-2_po.pdf
footprint NXP-SOT314-2_V (QFP, 64-Leads, Body 10x10mm, Pitch 0.5mm)
part A pins: 1 P0.21/PWM5/AD1.6/CAP1.3 (io), 2 P0.22/AD1.7/CAP0.0/MAT0.0 (io), 3 RTCX1 "Input to the RTC oscillator circuit.", 4 P1.19/TRACEPKT3 (io), 5 RTCX2 "Output from the RTC oscillator circuit.", 8 P1.18/TRACEPKT2 (io), 9 P0.25/AD0.4/AOUT (io), 10 D+ (io) "USB bidirectional D+ line.", 11 D- (io) "USB bidirectional D- line.", 12 P1.17/TRACEPKT1 (io), 13 P0.28/AD0.1/CAP0.2/MAT0.2 (io), 14 P0.29/AD0.2/CAP0.3/MAT0.3 (io), 15 P0.30/AD0.3/EINT3/CAP0.0 (io), 16 P1.16/TRACEPKT0 (io), 17 P0.31/UP_LED/CONNECT (out), 19 P0.0/TXD0/PWM1 (io), 20 P1.31/~{TRST} (io), 21 P0.1/RXD0/PWM3/EINT0 (io), 22 P0.2/SCL0/CAP0.0 (io), 24 P1.26/RTCK (io), 26 P0.3/SDA0/MAT0.0/EINT1 (io), 27 P0.4/SCK0/CAP0.1/AD0.6 (io), 28 P1.25/EXTIN0 (io), 29 P0.5/MISO0/MAT0.1/AD0.7 (io), 30 P0.6/MOSI0/CAP0.2/AD1.0 (io), 31 P0.7/SSEL0/PWM2/EINT2 (io), 32 P1.24/TRACECLK (io), 33 P0.8/TXD1/PWM4/AD1.1 (io), 34 P0.9/RXD1/PWM6/EINT3 (io), 35 P0.10/RTS1/CAP1.0/AD1.2 (io), 36 P1.23/PIPESTAT2 (io), 37 P0.11/CTS1/CAP1.1/SCL1 (io), 38 P0.12/DSR1/MAT1.0/AD1.3 (io), 39 P0.13/DTR1/MAT1.1/AD1.4 (io), 40 P1.22/PIPESTAT1 (io), 41 P0.14/DCD1/EINT1/SDA1 (io), 44 P1.21/PIPESTAT0 (io), 45 P0.15/RI1/EINT2/AD1.5 (io), 46 P0.16/EINT0/MAT0.2/CAP0.2 (io), 47 P0.17/CAP1.2/SCK1/MAT1.2 (io), 48 P1.20/TRACESYNC (io), 52 P1.30/TMS (io), 53 P0.18/CAP1.3/MISO1/MAT1.3 (io), 54 P0.19/MAT1.2/MOSI1/CAP1.2 (io), 55 P0.20/MAT1.3/SSEL1/EINT3 (io), 56 P1.29/TCK (io), 57 ~{RESET} (in) "External reset input: A LOW on this pin resets the device, causing I/O ports and peripherals to take on their default states, and processor execution to begin at address 0. TTL with hysteresis, 5 V tolerant.", 58 P0.23/VBUS (io), 60 P1.28/TDI (io), 61 XTAL2 "Output from the oscillator amplifier.", 62 XTAL1 (in) "Input to the oscillator circuit and internal clock generator circuits.", 64 P1.27/TDO (io)
part B pins: 6 VSS (power) "Ground: 0 V reference.", 7 VDDA (power) "Analog 3.3 V power supply: This should be nominally the same voltage as VDD but should be isolated to minimize noise and error.This voltage is only used to power the on-chip ADC(s) and DAC.", 18 VSS (power) "Ground: 0 V reference.", 23 VDD (power) "3.3 V power supply: This is the power supply voltage for the core and I/O ports.", 25 VSS (power) "Ground: 0 V reference.", 42 VSS (power) "Ground: 0 V reference.", 43 VDD (power) "3.3 V power supply: This is the power supply voltage for the core and I/O ports.", 49 VBAT (power) "RTC power supply voltage: 3.3 V on this pin supplies the power to the RTC.", 50 VSS (power) "Ground: 0 V reference.", 51 VDD (power) "3.3 V power supply: This is the power supply voltage for the core and I/O ports.", 59 VSSA (power) "Analog ground: 0 V reference. This should nominally be the same voltage as VSS, but should be isolated to minimize noise and error.", 63 VREF "ADC reference voltage: This should be nominally less than or equal to the VDD voltage but should be isolated to minimize noise and error.Level on this pin is used as a reference for ADC(s) and DAC."

## LPC2146FBD64,151
designator U?
16/32-bit ARM7 Microcontroller, 45 I/O, 256 kB Flash, 40 kB SRAM, -40 to 85 degC, 64-Pin LQFP, Tray; Manufacturer: NXP Semiconductors; PartNumber: LPC2146FBD64,151; # of timers: 2; ADC (bits): 10; ADC Channels: 14; Flash (KB): 256; fmax [max] (MHz): 60; I/O Pins: 45; PLL: TRUE; PWM: 6; RAM (KB): 40; SPI: 1; Timer (bits): 32; DatasheetVersion: Rev. 5; PackageVersion: Feb-03; PackageReference: SOT314-2; PackageDescription: 64-Pin Plastic Low Profile Quad Flat Package, Body 10 x 10 mm, Pitch 0.5 mm; Supplier 1: Digi-Key; Supplier Part Number 1: 568-1764-ND; Supplier 2: Newark; Supplier Part Number 2: 70R5630; Supplier 3: Mouser; Supplier Part Number 3: 771-LPC2146FBD64-S; Core: ARM7; I2C: 2; Packing: Tray; SSP: 1; UART: 2; USB: 1; Mounting Technology: Surface Mount; Code_JEDEC: MS-026; ComponentLink1Description: Manufacturer URL; ComponentLink1URL: http://www.nxp.com/; ComponentLink2Description: Datasheet; ComponentLink2URL: http://www.nxp.com/documents/data_sheet/LPC2141_42_44_46_48.pdf; ComponentLink3Description: Package Specification; ComponentLink3URL: http://www.nxp.com/documents/outline_drawing/sot314-2_po.pdf
footprint NXP-SOT314-2_V (QFP, 64-Leads, Body 10x10mm, Pitch 0.5mm)
part A pins: 1 P0.21/PWM5/AD1.6/CAP1.3 (io), 2 P0.22/AD1.7/CAP0.0/MAT0.0 (io), 3 RTCX1 "Input to the RTC oscillator circuit.", 4 P1.19/TRACEPKT3 (io), 5 RTCX2 "Output from the RTC oscillator circuit.", 8 P1.18/TRACEPKT2 (io), 9 P0.25/AD0.4/AOUT (io), 10 D+ (io) "USB bidirectional D+ line.", 11 D- (io) "USB bidirectional D- line.", 12 P1.17/TRACEPKT1 (io), 13 P0.28/AD0.1/CAP0.2/MAT0.2 (io), 14 P0.29/AD0.2/CAP0.3/MAT0.3 (io), 15 P0.30/AD0.3/EINT3/CAP0.0 (io), 16 P1.16/TRACEPKT0 (io), 17 P0.31/UP_LED/CONNECT (out), 19 P0.0/TXD0/PWM1 (io), 20 P1.31/~{TRST} (io), 21 P0.1/RXD0/PWM3/EINT0 (io), 22 P0.2/SCL0/CAP0.0 (io), 24 P1.26/RTCK (io), 26 P0.3/SDA0/MAT0.0/EINT1 (io), 27 P0.4/SCK0/CAP0.1/AD0.6 (io), 28 P1.25/EXTIN0 (io), 29 P0.5/MISO0/MAT0.1/AD0.7 (io), 30 P0.6/MOSI0/CAP0.2/AD1.0 (io), 31 P0.7/SSEL0/PWM2/EINT2 (io), 32 P1.24/TRACECLK (io), 33 P0.8/TXD1/PWM4/AD1.1 (io), 34 P0.9/RXD1/PWM6/EINT3 (io), 35 P0.10/RTS1/CAP1.0/AD1.2 (io), 36 P1.23/PIPESTAT2 (io), 37 P0.11/CTS1/CAP1.1/SCL1 (io), 38 P0.12/DSR1/MAT1.0/AD1.3 (io), 39 P0.13/DTR1/MAT1.1/AD1.4 (io), 40 P1.22/PIPESTAT1 (io), 41 P0.14/DCD1/EINT1/SDA1 (io), 44 P1.21/PIPESTAT0 (io), 45 P0.15/RI1/EINT2/AD1.5 (io), 46 P0.16/EINT0/MAT0.2/CAP0.2 (io), 47 P0.17/CAP1.2/SCK1/MAT1.2 (io), 48 P1.20/TRACESYNC (io), 52 P1.30/TMS (io), 53 P0.18/CAP1.3/MISO1/MAT1.3 (io), 54 P0.19/MAT1.2/MOSI1/CAP1.2 (io), 55 P0.20/MAT1.3/SSEL1/EINT3 (io), 56 P1.29/TCK (io), 57 ~{RESET} (in) "External reset input: A LOW on this pin resets the device, causing I/O ports and peripherals to take on their default states, and processor execution to begin at address 0. TTL with hysteresis, 5 V tolerant.", 58 P0.23/VBUS (io), 60 P1.28/TDI (io), 61 XTAL2 "Output from the oscillator amplifier.", 62 XTAL1 (in) "Input to the oscillator circuit and internal clock generator circuits.", 64 P1.27/TDO (io)
part B pins: 6 VSS (power) "Ground: 0 V reference.", 7 VDDA (power) "Analog 3.3 V power supply: This should be nominally the same voltage as VDD but should be isolated to minimize noise and error.This voltage is only used to power the on-chip ADC(s) and DAC.", 18 VSS (power) "Ground: 0 V reference.", 23 VDD (power) "3.3 V power supply: This is the power supply voltage for the core and I/O ports.", 25 VSS (power) "Ground: 0 V reference.", 42 VSS (power) "Ground: 0 V reference.", 43 VDD (power) "3.3 V power supply: This is the power supply voltage for the core and I/O ports.", 49 VBAT (power) "RTC power supply voltage: 3.3 V on this pin supplies the power to the RTC.", 50 VSS (power) "Ground: 0 V reference.", 51 VDD (power) "3.3 V power supply: This is the power supply voltage for the core and I/O ports.", 59 VSSA (power) "Analog ground: 0 V reference. This should nominally be the same voltage as VSS, but should be isolated to minimize noise and error.", 63 VREF "ADC reference voltage: This should be nominally less than or equal to the VDD voltage but should be isolated to minimize noise and error.Level on this pin is used as a reference for ADC(s) and DAC."